# EAGLE library part STM32L476V_T___ (library MCU)
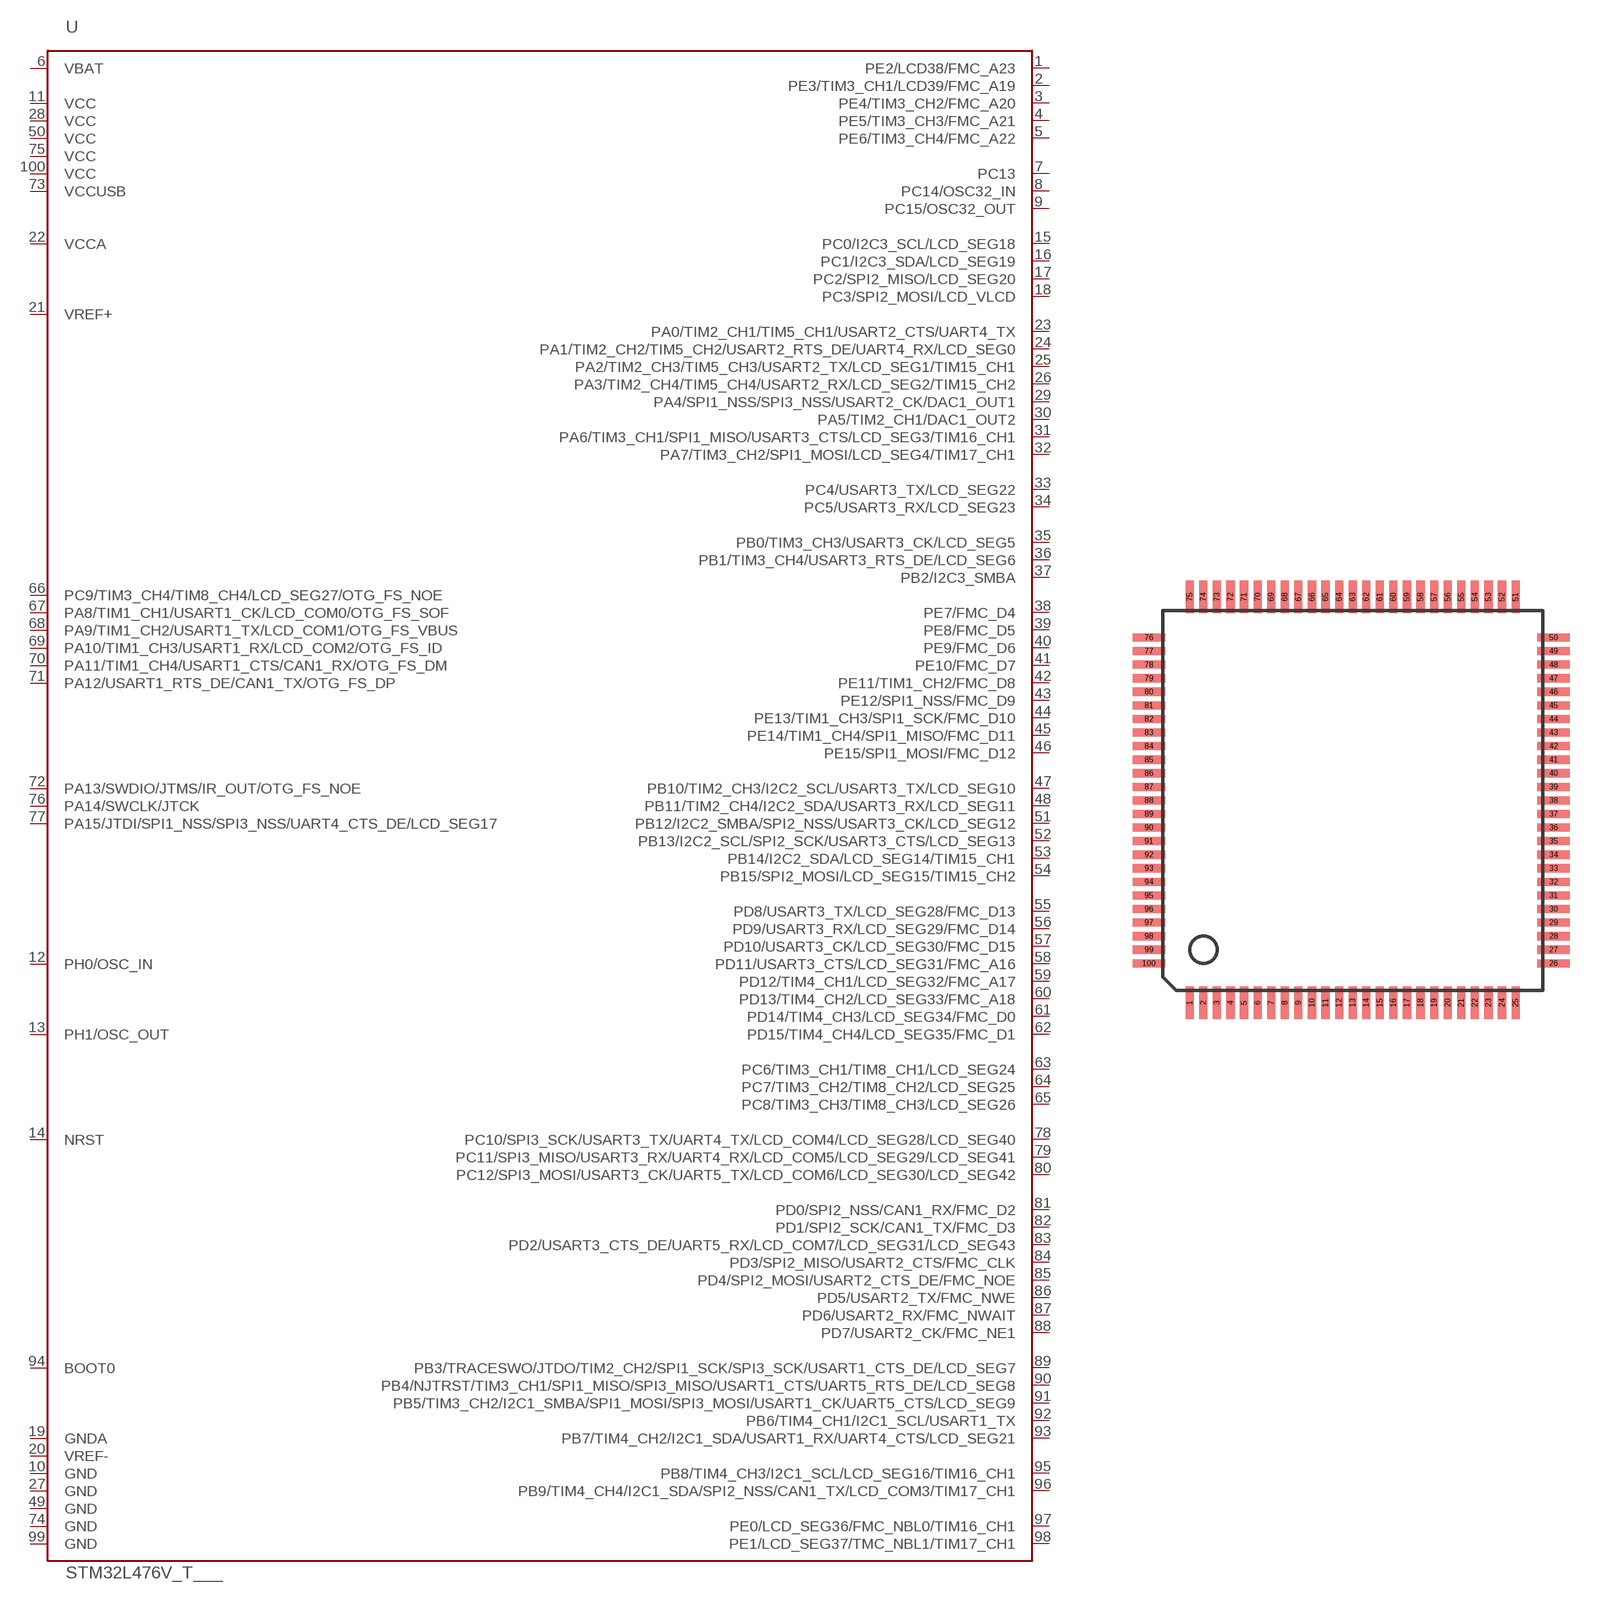
[diagram p8: symbol with the pads of LQFP100; footprint LQFP100]

Designator prefix U

## STM32L476V_T___  [LQFP100]
1  PE2/LCD38/FMC_A23  pas
2  PE3/TIM3_CH1/LCD39/FMC_A19  pas
3  PE4/TIM3_CH2/FMC_A20  pas
4  PE5/TIM3_CH3/FMC_A21  pas
5  PE6/TIM3_CH4/FMC_A22  pas
6  VBAT  pas
7  PC13  pas
8  PC14/OSC32_IN  pas
9  PC15/OSC32_OUT  pas
10  GND  pas
11  VCC  pas
12  PH0/OSC_IN  pas
13  PH1/OSC_OUT  pas
14  NRST  pas
15  PC0/I2C3_SCL/LCD_SEG18  pas
16  PC1/I2C3_SDA/LCD_SEG19  pas
17  PC2/SPI2_MISO/LCD_SEG20  pas
18  PC3/SPI2_MOSI/LCD_VLCD  pas
19  GNDA  pas
20  VREF-  pas
21  VREF+  pas
22  VCCA  pas
23  PA0/TIM2_CH1/TIM5_CH1/USART2_CTS/UART4_TX  pas
24  PA1/TIM2_CH2/TIM5_CH2/USART2_RTS_DE/UART4_RX/LCD_SEG0  pas
25  PA2/TIM2_CH3/TIM5_CH3/USART2_TX/LCD_SEG1/TIM15_CH1  pas
26  PA3/TIM2_CH4/TIM5_CH4/USART2_RX/LCD_SEG2/TIM15_CH2  pas
27  GND  pas
28  VCC  pas
29  PA4/SPI1_NSS/SPI3_NSS/USART2_CK/DAC1_OUT1  pas
30  PA5/TIM2_CH1/DAC1_OUT2  pas
31  PA6/TIM3_CH1/SPI1_MISO/USART3_CTS/LCD_SEG3/TIM16_CH1  pas
32  PA7/TIM3_CH2/SPI1_MOSI/LCD_SEG4/TIM17_CH1  pas
33  PC4/USART3_TX/LCD_SEG22  pas
34  PC5/USART3_RX/LCD_SEG23  pas
35  PB0/TIM3_CH3/USART3_CK/LCD_SEG5  pas
36  PB1/TIM3_CH4/USART3_RTS_DE/LCD_SEG6  pas
37  PB2/I2C3_SMBA  pas
38  PE7/FMC_D4  pas
39  PE8/FMC_D5  pas
40  PE9/FMC_D6  pas
41  PE10/FMC_D7  pas
42  PE11/TIM1_CH2/FMC_D8  pas
43  PE12/SPI1_NSS/FMC_D9  pas
44  PE13/TIM1_CH3/SPI1_SCK/FMC_D10  pas
45  PE14/TIM1_CH4/SPI1_MISO/FMC_D11  pas
46  PE15/SPI1_MOSI/FMC_D12  pas
47  PB10/TIM2_CH3/I2C2_SCL/USART3_TX/LCD_SEG10  pas
48  PB11/TIM2_CH4/I2C2_SDA/USART3_RX/LCD_SEG11  pas
49  GND  pas
50  VCC  pas
51  PB12/I2C2_SMBA/SPI2_NSS/USART3_CK/LCD_SEG12  pas
52  PB13/I2C2_SCL/SPI2_SCK/USART3_CTS/LCD_SEG13  pas
53  PB14/I2C2_SDA/LCD_SEG14/TIM15_CH1  pas
54  PB15/SPI2_MOSI/LCD_SEG15/TIM15_CH2  pas
55  PD8/USART3_TX/LCD_SEG28/FMC_D13  pas
56  PD9/USART3_RX/LCD_SEG29/FMC_D14  pas
57  PD10/USART3_CK/LCD_SEG30/FMC_D15  pas
58  PD11/USART3_CTS/LCD_SEG31/FMC_A16  pas
59  PD12/TIM4_CH1/LCD_SEG32/FMC_A17  pas
60  PD13/TIM4_CH2/LCD_SEG33/FMC_A18  pas
61  PD14/TIM4_CH3/LCD_SEG34/FMC_D0  pas
62  PD15/TIM4_CH4/LCD_SEG35/FMC_D1  pas
63  PC6/TIM3_CH1/TIM8_CH1/LCD_SEG24  pas
64  PC7/TIM3_CH2/TIM8_CH2/LCD_SEG25  pas
65  PC8/TIM3_CH3/TIM8_CH3/LCD_SEG26  pas
66  PC9/TIM3_CH4/TIM8_CH4/LCD_SEG27/OTG_FS_NOE  pas
67  PA8/TIM1_CH1/USART1_CK/LCD_COM0/OTG_FS_SOF  pas
68  PA9/TIM1_CH2/USART1_TX/LCD_COM1/OTG_FS_VBUS  pas
69  PA10/TIM1_CH3/USART1_RX/LCD_COM2/OTG_FS_ID  pas
70  PA11/TIM1_CH4/USART1_CTS/CAN1_RX/OTG_FS_DM  pas
71  PA12/USART1_RTS_DE/CAN1_TX/OTG_FS_DP  pas
72  PA13/SWDIO/JTMS/IR_OUT/OTG_FS_NOE  pas
73  VCCUSB  pas
74  GND  pas
75  VCC  pas
76  PA14/SWCLK/JTCK  pas
77  PA15/JTDI/SPI1_NSS/SPI3_NSS/UART4_CTS_DE/LCD_SEG17  pas
78  PC10/SPI3_SCK/USART3_TX/UART4_TX/LCD_COM4/LCD_SEG28/LCD_SEG40  pas
79  PC11/SPI3_MISO/USART3_RX/UART4_RX/LCD_COM5/LCD_SEG29/LCD_SEG41  pas
80  PC12/SPI3_MOSI/USART3_CK/UART5_TX/LCD_COM6/LCD_SEG30/LCD_SEG42  pas
81  PD0/SPI2_NSS/CAN1_RX/FMC_D2  pas
82  PD1/SPI2_SCK/CAN1_TX/FMC_D3  pas
83  PD2/USART3_CTS_DE/UART5_RX/LCD_COM7/LCD_SEG31/LCD_SEG43  pas
84  PD3/SPI2_MISO/USART2_CTS/FMC_CLK  pas
85  PD4/SPI2_MOSI/USART2_CTS_DE/FMC_NOE  pas
86  PD5/USART2_TX/FMC_NWE  pas
87  PD6/USART2_RX/FMC_NWAIT  pas
88  PD7/USART2_CK/FMC_NE1  pas
89  PB3/TRACESWO/JTDO/TIM2_CH2/SPI1_SCK/SPI3_SCK/USART1_CTS_DE/LCD_SEG7  pas
90  PB4/NJTRST/TIM3_CH1/SPI1_MISO/SPI3_MISO/USART1_CTS/UART5_RTS_DE/LCD_SEG8  pas
91  PB5/TIM3_CH2/I2C1_SMBA/SPI1_MOSI/SPI3_MOSI/USART1_CK/UART5_CTS/LCD_SEG9  pas
92  PB6/TIM4_CH1/I2C1_SCL/USART1_TX  pas
93  PB7/TIM4_CH2/I2C1_SDA/USART1_RX/UART4_CTS/LCD_SEG21  pas
94  BOOT0  pas
95  PB8/TIM4_CH3/I2C1_SCL/LCD_SEG16/TIM16_CH1  pas
96  PB9/TIM4_CH4/I2C1_SDA/SPI2_NSS/CAN1_TX/LCD_COM3/TIM17_CH1  pas
97  PE0/LCD_SEG36/FMC_NBL0/TIM16_CH1  pas
98  PE1/LCD_SEG37/TMC_NBL1/TIM17_CH1  pas
99  GND  pas
100  VCC  pas

## Footprint LQFP100 (pad centres in mm)
smd 0.3 x 1.2: 1 -6,-7.45; 2 -5.5,-7.45; 3 -5,-7.45; 4 -4.5,-7.45; 5 -4,-7.45; 6 -3.5,-7.45; 7 -3,-7.45; 8 -2.5,-7.45; 9 -2,-7.45; 10 -1.5,-7.45; 11 -1,-7.45; 12 -0.5,-7.45; 13 0,-7.45; 14 0.5,-7.45; 15 1,-7.45; 16 1.5,-7.45; 17 2,-7.45; 18 2.5,-7.45; 19 3,-7.45; 20 3.5,-7.45; 21 4,-7.45; 22 4.5,-7.45; 23 5,-7.45; 24 5.5,-7.45; 25 6,-7.45; 51 6,7.5; 52 5.5,7.5; 53 5,7.5; 54 4.5,7.5; 55 4,7.5; 56 3.5,7.5; 57 3,7.5; 58 2.5,7.5; 59 2,7.5; 60 1.5,7.5; 61 1,7.5; 62 0.5,7.5; 63 0,7.5; 64 -0.5,7.5; 65 -1,7.5; 66 -1.5,7.5; 67 -2,7.5; 68 -2.5,7.5; 69 -3,7.5; 70 -3.5,7.5; 71 -4,7.5; 72 -4.5,7.5; 73 -5,7.5; 74 -5.5,7.5; 75 -6,7.5
smd 1.2 x 0.3: 26 7.4,-6; 27 7.4,-5.5; 28 7.4,-5; 29 7.4,-4.5; 30 7.4,-4; 31 7.4,-3.5; 32 7.4,-3; 33 7.4,-2.5; 34 7.4,-2; 35 7.4,-1.5; 36 7.4,-1; 37 7.4,-0.5; 38 7.4,0; 39 7.4,0.5; 40 7.4,1; 41 7.4,1.5; 42 7.4,2; 43 7.4,2.5; 44 7.4,3; 45 7.4,3.5; 46 7.4,4; 47 7.4,4.5; 48 7.4,5; 49 7.4,5.5; 50 7.4,6; 76 -7.5,6; 77 -7.5,5.5; 78 -7.5,5; 79 -7.5,4.5; 80 -7.5,4; 81 -7.5,3.5; 82 -7.5,3; 83 -7.5,2.5; 84 -7.5,2; 85 -7.5,1.5; 86 -7.5,1; 87 -7.5,0.5; 88 -7.5,0; 89 -7.5,-0.5; 90 -7.5,-1; 91 -7.5,-1.5; 92 -7.5,-2; 93 -7.5,-2.5; 94 -7.5,-3; 95 -7.5,-3.5; 96 -7.5,-4; 97 -7.5,-4.5; 98 -7.5,-5; 99 -7.5,-5.5; 100 -7.5,-6